# Altium schematic symbol library Sample - Kame_PDB.SCHLIB: 23 symbols
Pins are listed as number, name and electrical type; pins without a type are passive.

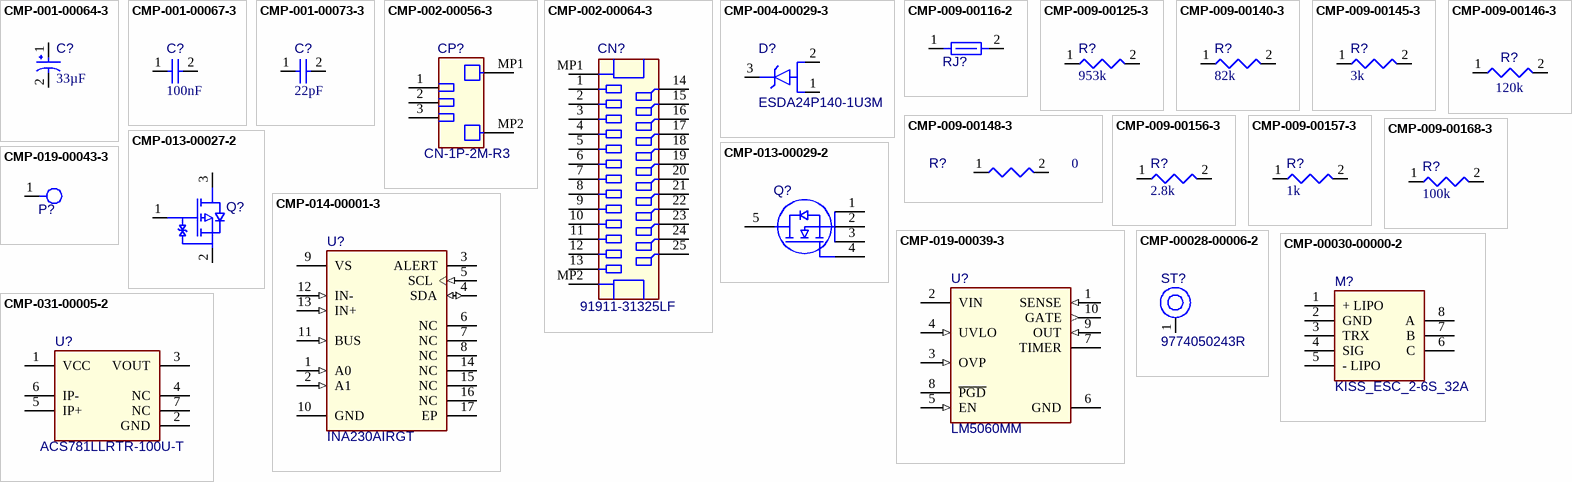
[diagram p0: symbols CMP-001-00064-3 to CMP-031-00005-2]

## CMP-001-00064-3
designator C?, comment value 33µF  (hidden comment: Capacitor 33µF +/-20% 25V 2917)
Aluminum Organic Polymer Capacitors 33uF 25volt SP-Cap AEC-Q200; Manufacturer: Panasonic; Manufacturer Part Number: EEF-CX1E330R; Tolerance: 20%; Case/Package: 2917; Voltage Rating: 25V; Mounting Technology: SMT; Min Operating Temperature: -40°C; Max Operating Temperature: 105°C; Pins: 2; Component Type: Capacitors
footprint EEF-CX1E330R-Footprint-1
pins: 1, 2

## CMP-001-00067-3
designator C?, comment value 100nF  (hidden comment: Capacitor 100nF +/-20% 50V 0402)
Chip Capacitor, 100nF +/-20%, 50V, 0402, Thickness 0.6 mm; Manufacturer: Murata; Manufacturer Part Number: GRM155R61H104JE14D; Manufacturer: Taiyo Yuden; Manufacturer Part Number: UMK105B7104KV-FR; Manufacturer: TDK; Manufacturer Part Number: C1005X7R1H104K; Manufacturer: Yageo; Manufacturer Part Number: CC0402KRX7R9BB104; Manufacturer Part Number: C1005X6S1H104K050BB; Manufacturer Part Number: CC0402KRX5R9BB104; Manufacturer Part Number: C1005X7R1H104K050BB; Manufacturer Part Number: GRM155R71H104KE14D; Manufacturer: Kyocera AVX; Manufacturer Part Number: 04025D104KAT2A; Manufacturer Part Number: GCM155L81E104KE02D; Manufacturer Part Number: C1005X5R1H104K; Tolerance: 10%; Mounting Technology: SMT; Voltage Rating: 50V; Pins: 2; Case/Package: 0402; Max Operating Temperature: 85°C; Min Operating Temperature: -55°C; Component Type: Capacitors
footprint CAPC0402(1005)60_L (Chip Capacitor, Body 1.0x0.5mm, Height 0.6mm, IPC High Density)
pins: 1, 2

## CMP-001-00073-3
designator C?, comment value 22pF  (hidden comment: Capacitor 22pF +/-10% 50V 0402)
Chip Capacitor, 22pF +/-10%, 50V, 0402, Thickness 0.6 mm; Manufacturer: KEMET; Manufacturer Part Number: C0402C220J5GAC; Manufacturer: Murata; Manufacturer Part Number: GRM1535C1H220JDD5D; Manufacturer Part Number: GRM1555C1H220JA01D; Manufacturer: Yageo; Manufacturer Part Number: CC0402JRNP09BN220; Manufacturer: TDK; Manufacturer Part Number: C1005C0G1H220J; Manufacturer: Vishay Vitramon; Manufacturer Part Number: VJ0402A220JXAAC; Manufacturer: Vishay; Manufacturer Part Number: VJ0402A220JXACW1BC; Manufacturer: Kyocera AVX; Manufacturer Part Number: 04025A220JAT2A; Manufacturer Part Number: VJ0402A220JNAAO; Manufacturer Part Number: VJ0402A220JXAPW1BC; Manufacturer Part Number: VJ0402A220JXAAP; Manufacturer Part Number: C0402C220J5GACTU; Manufacturer Part Number: 04025A220JAT4A; Tolerance: 10%; Mounting Technology: SMT; Pins: 2; Voltage Rating: 50V; Case/Package: 0402; Max Operating Temperature: 85°C; Min Operating Temperature: -55°C; Component Type: Capacitors
footprint CAPC0402(1005)60_L (Chip Capacitor, Body 1.0x0.5mm, Height 0.6mm, IPC High Density)
pins: 1, 2

## CMP-002-00056-3
designator CP?, comment CN-1P-2M-R3
AMASS 500V 15A   0.8 mOhm; Pins: 5; Component Type: Connectors
footprint MR30PW-FB-Footprint-1
pins: 1, 2, 3, MP1, MP2

## CMP-002-00064-3
designator CN?, comment 91911-31325LF
Header, Pitch 1 mm, 25 Position, Height 5 mm, -55 to 130 degC; Manufacturer: Amphenol ICC / FCI; Pins: 27; Manufacturer Part Number: 91911-31325LF; Component Type: Connectors
footprint AMPH-91911-31325_V (SMD, 25-Leads, Body 5.59x17.3mm, Pitch 1mm)
pins: 1, 2, 3, 4, 5, 6, 7, 8, 9, 10, 11, 12, 13, 14, 15, 16, 17, 18, 19, 20, 21, 22, 23, 24, 25, MP1, MP2

## CMP-004-00029-3
designator D?, comment ESDA24P140-1U3M
TVS diode, 4500W, 22V standoff, 29.5V clamp; Manufacturer: STMicroelectronics; Peak Inverse Voltage: 22.7V; Forward Voltage: 700mV; Max Surge Current: 140A; Case/Package: 3-QFN; Mounting Technology: SMT; RoHS Compliant: Yes; Pins: 3; Manufacturer Part Number: ESDA24P140-1U3M; Component Type: Diodes
footprint STM-QFN3 (SMD, 3-Leads, Body 2x2mm)
pins: 1 A, 2 A, 3 K

## CMP-009-00116-2
designator RJ?, comment Net Tie 10x8mil  (value not drawn)  (net tie, no BOM)
Pins: 2; Max Operating Temperature: 155°C; Min Operating Temperature: -55°C; Component Type: Resistors
footprint New footprint 1
pins: 1, 2

## CMP-009-00125-3
designator R?, comment value 953k  (hidden comment: Resistor 953K +/-1 % 0402 63 mW)
Chip Resistor, 953 kOhms, +/-1 %, 63 mW, -55 to 155 degC, 0402; Manufacturer: Bourns; Manufacturer Part Number: CR0402-FX-9533GLF; Manufacturer: Vishay; Manufacturer Part Number: CRCW0402953KFKED; Manufacturer: Panasonic; Manufacturer Part Number: ERJ-2RKF9533X; Manufacturer: Yageo; Manufacturer Part Number: RC0402FR-07953KL; Manufacturer: Vishay Dale; Manufacturer Part Number: CRCW0402953KFKTD; Power: 63mW; Tolerance: 1%; Case/Package: 0402; Max Operating Temperature: 155°C; Min Operating Temperature: -55°C; Pins: 2; Component Type: Resistors
footprint RESC0402(1005)_L (Chip Resistor, Body 1.0x0.5mm, IPC High Density)
pins: 1, 2
1 alternate drawing of the same symbol

## CMP-009-00140-3
designator R?, comment value 82k  (hidden comment: Resistor 82K  +/-1 % 0402 63 mW)
Chip Resistor, 82 kOhms, +/-1 %, 63 mW, -55 to 155 degC, 0402; Manufacturer: Bourns; Manufacturer Part Number: CR0402-FX-8202GLF; Tolerance: 1%; Power: 63mW; Case/Package: 0402; Pins: 2; Component Type: Resistors
footprint RESC0402(1005)_L (Chip Resistor, Body 1.0x0.5mm, IPC High Density)
pins: 1, 2
1 alternate drawing of the same symbol

## CMP-009-00145-3
designator R?, comment value 3k  (hidden comment: Resistor 3K +/-1 % 0402 63 mW)
Chip Resistor, 3 kOhms, +/-1 %, 63 mW, -55 to 155 degC, 0402; Manufacturer: Yageo; Manufacturer Part Number: RC0402FR-073KL; Manufacturer: Vishay; Manufacturer Part Number: CRCW04023K00FKED; Manufacturer: Panasonic; Manufacturer Part Number: ERJ-2RKF3001X; Manufacturer: Bourns; Manufacturer Part Number: CR0402-FX-3001GLF; Manufacturer: Vishay Dale; Manufacturer Part Number: CRCW04023K00FKTD; Power: 63mW; Tolerance: 1%; Case/Package: 0402; Max Operating Temperature: 155°C; Min Operating Temperature: -55°C; Pins: 2; Component Type: Resistors
footprint RESC0402(1005)_L (Chip Resistor, Body 1.0x0.5mm, IPC High Density)
pins: 1, 2
1 alternate drawing of the same symbol

## CMP-009-00146-3
designator R?, comment value 120k  (hidden comment: Resistor 120K +/-1 % 0402 63 mW)
Chip Resistor, 120 kOhms, +/-1 %, 63 mW, -55 to 155 degC, 0402; Manufacturer: Bourns; Manufacturer Part Number: CR0402-FX-1203GLF; Manufacturer: Panasonic; Manufacturer Part Number: ERJ-2RKF1203X; Manufacturer: Vishay Dale; Manufacturer Part Number: CRCW0402120KFKTD; Manufacturer Part Number: CRCW0402120KFKEE; Manufacturer: Vishay; Manufacturer Part Number: CRCW0402120KFKED; Manufacturer: Yageo; Manufacturer Part Number: RC0402FR-07120KL; Tolerance: 1%; Power: 63mW; Case/Package: 0402; Max Operating Temperature: 155°C; Min Operating Temperature: -55°C; Pins: 2; Component Type: Resistors
footprint RESC0402(1005)_L (Chip Resistor, Body 1.0x0.5mm, IPC High Density)
pins: 1, 2
1 alternate drawing of the same symbol

## CMP-009-00148-3
designator R?, comment value 0  (hidden comment: Jumper 0402)
Manufacturer: Bourns; Manufacturer Part Number: CR0402-J/-000GLF; Manufacturer: Vishay; Manufacturer Part Number: CRCW04020000Z0ED; Manufacturer: Panasonic; Manufacturer Part Number: ERJ-2GE0R00X; Manufacturer: Vishay Dale; Manufacturer Part Number: CRCW04020000Z0EE; Manufacturer Part Number: CRCW04020000Z0TD; Manufacturer: Yageo; Manufacturer Part Number: RC0402JR-070RL; Case/Package: 0402; Max Operating Temperature: 155°C; Min Operating Temperature: -55°C; Pins: 2; Component Type: Resistors
footprint RESC0402(1005)_L (Chip Resistor, Body 1.0x0.5mm, IPC High Density)
pins: 1, 2
1 alternate drawing of the same symbol

## CMP-009-00156-3
designator R?, comment value 2.8k  (hidden comment: Resistor 2K8  +/-1 % 0402 63 mW)
Chip Resistor, 2,8 kOhms, +/-1 %, 63 mW, -55 to 155 degC, 0402; Manufacturer: Yageo; Manufacturer Part Number: RC0402FR-072K8L; Power: 63mW; Tolerance: 1%; Case/Package: 0402; Pins: 2; Component Type: Resistors
footprint RESC0402(1005)_L (Chip Resistor, Body 1.0x0.5mm, IPC High Density)
pins: 1, 2
1 alternate drawing of the same symbol

## CMP-009-00157-3
designator R?, comment value 1k  (hidden comment: Resistor 1K +/-5 % 0402 63 mW)
Chip Resistor, 1 kOhms, +/-5 %, 63 mW, -55 to 155 degC, 0402; Manufacturer: Vishay Dale; Manufacturer Part Number: CRCW04021K00JNED; Manufacturer Part Number: CRCW04021K00JNTE; Manufacturer Part Number: CRCW04021K00JNTD; Manufacturer Part Number: CRCW04021K00JNEE; Manufacturer: Panasonic; Manufacturer Part Number: ERJ-2GEJ102X; Manufacturer: Bourns; Manufacturer Part Number: CR0402-JW-102GLF; Manufacturer: Yageo; Manufacturer Part Number: RC0402JR-071KL; Tolerance: 5%; Power: 63mW; Case/Package: 0402; Max Operating Temperature: 155°C; Min Operating Temperature: -55°C; Pins: 2; Component Type: Resistors
footprint RESC0402(1005)_L (Chip Resistor, Body 1.0x0.5mm, IPC High Density)
pins: 1, 2
1 alternate drawing of the same symbol

## CMP-009-00168-3
designator R?, comment value 100k  (hidden comment: Resistor 100K +/-1 % 0402 63 mW)
Chip Resistor, 100 kOhms, +/-1 %, 63 mW, -55 to 155 degC, 0402; Manufacturer: Vishay Dale; Manufacturer Part Number: CRCW0402100KFKEE; Manufacturer Part Number: CRCW0402100KFKTD; Manufacturer: Bourns; Manufacturer Part Number: CR0402-FX-1003GLF; Manufacturer: Yageo; Manufacturer Part Number: RC0402FR-07100KL; Manufacturer: Vishay; Manufacturer Part Number: CRCW0402100KFKED; Manufacturer: Panasonic; Manufacturer Part Number: ERJ-2RKF1003X; Tolerance: 1%; Power: 63mW; Case/Package: 0402; Max Operating Temperature: 155°C; Min Operating Temperature: -55°C; Pins: 2; Component Type: Resistors
footprint RESC0402(1005)_L (Chip Resistor, Body 1.0x0.5mm, IPC High Density)
pins: 1, 2
1 alternate drawing of the same symbol

## CMP-013-00027-2
designator Q?, comment RZM002P02T2L  (value not drawn)
Pch Small Signal MOSFET, 20 V, 200 mA, 3-Pin SOT723, RoHS, Tape and Reel; Manufacturer: Rohm; Vgs(th) (Max) @ Id: 1V@100µA; Pins: 3; Manufacturer Part Number: RZM002P02T2L; Component Type: Transistors
footprint ROHM-SOT723-3_V (SOT723, 3-Leads, Body 1.2x0.8mm, Pitch 0.8mm)
pins: 1 G, 2 S, 3 D

## CMP-013-00029-2
designator Q?, comment PSMN1R0-30YLDX  (value not drawn)
N-channel Logic Level MOSFET, 30 V, 300 A, -55 to 175 degC, 5-Pin SOT669, RoHS, Tape and Reel; Manufacturer: NXP Semiconductors; Manufacturer: Nexperia; Transistor Type: 1N-Channel; Vgs (Max): 20V; Pins: 5; RoHS Compliant: True; Manufacturer Part Number: PSMN1R0-30YLDX; Component Type: Transistors
footprint NXP-SOT669_L (DPAK, 4-Leads, Body 5x4.1mm, Pitch 1.27mm, IPC High Density)
pins: 1 S, 2 S, 3 S, 4 G, 5 D

## CMP-014-00001-3
designator U?, comment INA230AIRGT
High or Low Side Measurement, 2.7 to 5.5 V, -40 to 125 degC, 16-Pin QFN, RoHS, Tape and Reel; Manufacturer: Texas Instruments; Manufacturer Part Number: INA230AIRGTR; Mounting Technology: SurfaceMount; Pins: 17; Manufacturer Part Number: INA230AIRGT; Component Type: Amplifiers
footprint RGT0016C_V (QFN, 16-Leads, Body 3x3mm, Pitch 0.5mm, Thermal Pad 1.65x1.65mm)
pins: 1 A0 (in), 2 A1 (in), 3 ALERT (oc), 4 SDA (io), 5 SCL (in), 6 NC, 7 NC, 8 NC, 9 VS (power), 10 GND (power), 11 BUS (in), 12 IN- (in), 13 IN+ (in), 14 NC, 15 NC, 16 NC, 17 EP (power)

## CMP-019-00039-3
designator U?, comment LM5060MM
High-Side Protection Controller with Low Quiescent Current, 5.5 to 65 V, -40 to 125 degC, 10-Pin VSSOP, RoHS, Tape and Reel; Manufacturer: TI National Semiconductor; Manufacturer Part Number: LM5060MM/NOPB; Max Supply Voltage: 65V; Min Supply Voltage: 5.5V; Min Operating Temperature: -40°C; Max Operating Temperature: 125°C; Pins: 10; Component Type: Power Supply
footprint DGS0010A_N (SOP, 10-Leads, Body 3.1x3.1mm, Pitch 0.5mm, IPC Medium Density)
pins: 1 SENSE (in), 2 VIN (power), 3 OVP (in), 4 UVLO (in), 5 EN (in), 6 GND (power), 7 TIMER, 8 ~{PGD} (oc), 9 OUT (in), 10 GATE (out)

## CMP-019-00043-3
designator P?, comment WIRE_PAD_7x4  (value not drawn)  (no BOM)
SMD WIRE PAD 7 x 4 mm; Pins: 1; Component Type: Power Supply
footprint WIRE_PAD_7x4-Footprint-1
pins: 1 H1

## CMP-00028-00006-2
designator ST?, comment 9774050243R
WA-SMSI SMT Steel Spacer, M2 Thread Internal, Tin, RoHS, Tape and Reel; Manufacturer: Wurth Electronics; Pins: 1; Manufacturer Part Number: 9774050243R; Component Type: Mechanical
footprint WE-9774050243R_V (Round Standoff M2 Steel Spacer)
pins: 1 H1

## CMP-00030-00000-2
designator M?, comment KISS_ESC_2-6S_32A
KISS ESC 2-6S 32A (45A limit) - 32bit brushless Motor Ctrl; Pins: 8; Component Type: Miscellaneous
footprint ESC 2-6S 32A-Footprint-1
pins: 1 + LIPO, 2 GND, 3 TRX, 4 SIG, 5 - LIPO, 6 C, 7 B, 8 A

## CMP-031-00005-2
designator U?, comment ACS781LLRTR-100U-T
High-Precision Linear Hall-Effect-Based Current Sensor IC with 200 u? Current Conductor, 3 to 3.6 V, -40 to 150 degC, 7-Pin PSOF, RoHS, Tape and Reel; Manufacturer: Allegro MicroSystems; Pins: 7; Manufacturer Part Number: ACS781LLRTR-100U-T; Component Type: Integrated Circuits
footprint ALEG-PSOF-7_V (SOF, 8-Leads, Body 4.8x6.4mm)
pins: 1 VCC (power) "Device power supply terminal", 2 GND (power) "Signal ground terminal", 3 VOUT (power) "Analog output signal", 4 NC "No connection", 5 IP+ "Terminal for current being sampled", 6 IP- "Terminal for current being sampled", 7 NC "No connection"